# EAGLE library part DIP-YELLOW-FEMALE-HEADER-VERT(2X11P-2.54) (library Seeed-OPL-Connector)
320030130
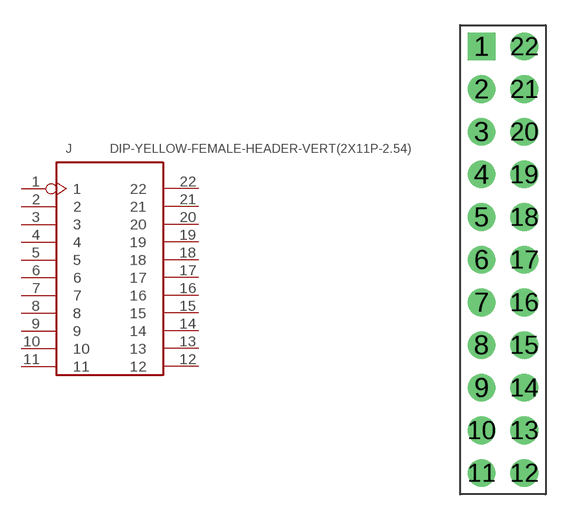
[diagram p133: symbol with the pads of H2X11-2.54; footprint H2X11-2.54]

Designator prefix J

## DIP-YELLOW-FEMALE-HEADER-VERT(2X11P-2.54) (MPN: F185-1222A0BSYA1; VALUE: 2x11p-2.54)  [H2X11-2.54]
1  1
2  2
3  3
4  4
5  5
6  6
7  7
8  8
9  9
10  10
11  11
12  12
13  13
14  14
15  15
16  16
17  17
18  18
19  19
20  20
21  21
22  22

## Footprint H2X11-2.54 (pad centres in mm)
drill 0.889 pad 1.651 square: 1 -1.27,12.7
drill 0.889 pad 1.651: 2 -1.27,10.16; 3 -1.27,7.62; 4 -1.27,5.08; 5 -1.27,2.54; 6 -1.27,0; 7 -1.27,-2.54; 8 -1.27,-5.08; 9 -1.27,-7.62; 10 -1.27,-10.16; 11 -1.27,-12.7; 12 1.27,-12.7; 13 1.27,-10.16; 14 1.27,-7.62; 15 1.27,-5.08; 16 1.27,-2.54; 17 1.27,0; 18 1.27,2.54; 19 1.27,5.08; 20 1.27,7.62; 21 1.27,10.16; 22 1.27,12.7